# Altium footprint library resistor_thd.PcbLib: 26 footprints (part 1 of 2)
Each footprint in its own frame and in the unit in brackets; x right, y up, seen from the top. Pads: shape width x height; smd on the part's side, far side on the other; paste and mask are expansions set on the pad; w line width, h text height; cw(c..) or ccw(c..) is an arc to the next point about the centre after c.
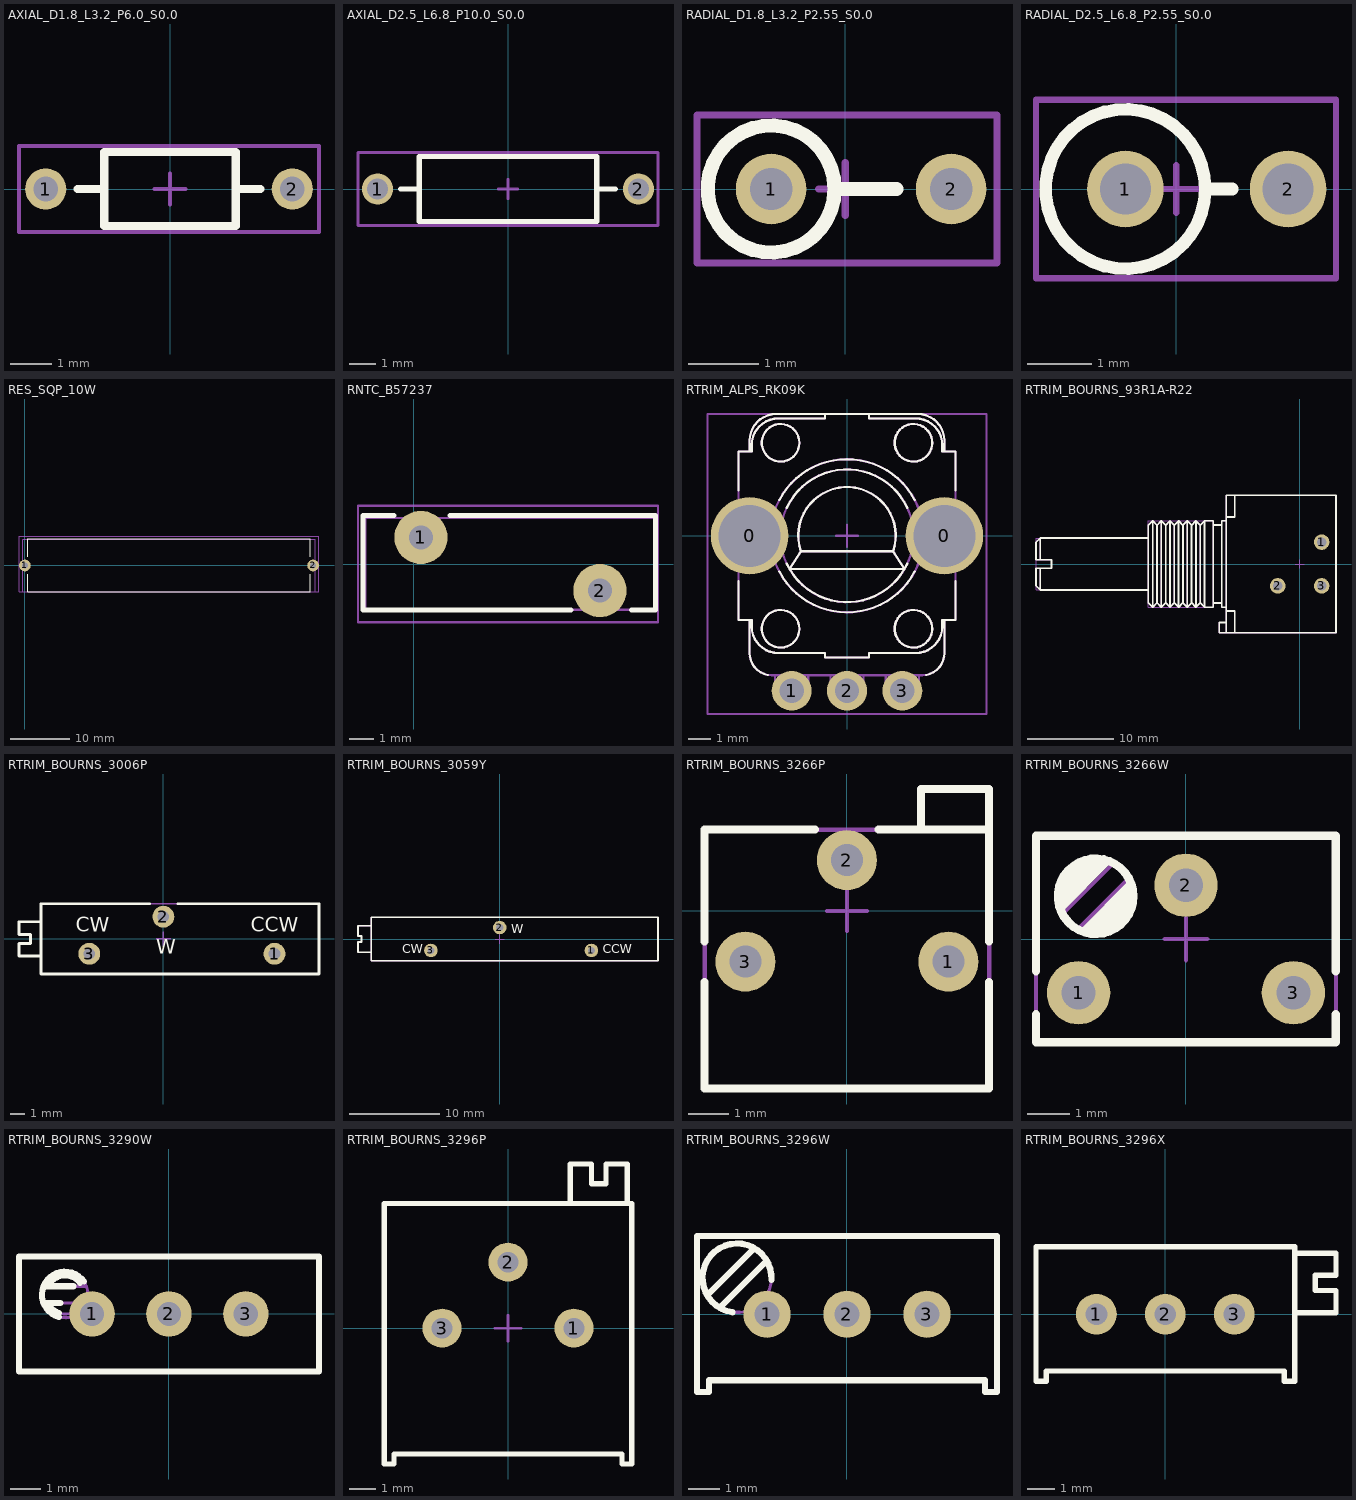
[diagram p0: the footprints below, top view; thin cyan lines are the x and y axes]

## AXIAL_D1.8_L3.2_P6.0_S0.0 [mm]
pads (2):
  round 1 hole 0.6: 1(-3.025,0) 2(2.975,0)
Top Overlay:
  lines w0.2: -2.25,0 -1.65,0 ; 1.6,0 2.2,0 ; -1.6,-0.9 -1.6,0.9 1.6,0.9 1.6,-0.9 -1.6,-0.9
Mechanical 1:
  lines w0.1: -2.25,0 -1.6,0 ; 1.6,0 2.2,0 ; -1.6,-0.9 -1.6,0.9 1.6,0.9 1.6,-0.9 -1.6,-0.9
Mechanical 15:
  lines w0.1: -0.375,0 0,0 ; 0,-0.375 0,0 ; 0,0.375 0,0 ; 0.375,0 0,0 ; -3.675,-1.05 -3.675,1.05 3.625,1.05 3.625,-1.05 -3.675,-1.05
3D body "R_0,25W__D1,8__L3,2__Pitch-6__Spacing-0_begie.stp": height 1.82, standoff -3.58, extent -3.25,-0.9 3.25,0.9

## AXIAL_D2.5_L6.8_P10.0_S0.0 [mm]
pads (2):
  round 1.2 hole 0.8: 1(-5,0) 2(5,0)
Top Overlay:
  lines w0.2: -4.125,0 -3.4,0 ; 3.4,0 4.125,0 ; -3.4,-1.25 3.4,-1.25 3.4,1.25 -3.4,1.25 -3.4,-1.25
Mechanical 1:
  lines w0.1: -4.125,0 -3.4,0 ; 3.4,0 4.125,0 ; -3.4,-1.25 -3.4,1.25 3.4,1.25 3.4,-1.25 -3.4,-1.25
Mechanical 15:
  lines w0.1: -0.375,0 0,0 ; 0,-0.375 0,0 ; 0,0.375 0,0 ; 0.375,0 0,0 ; -5.75,-1.4 5.75,-1.4 5.75,1.4 -5.75,1.4 -5.75,-1.4
3D body "R_0,5W__D2,5__L6,8__Pitch-10__Spacing-0_begie.stp": height 2.5, standoff -3.6, extent -5.3,-1.25 5.3,1.25

## RADIAL_D1.8_L3.2_P2.55_S0.0 [mm]
pads (2):
  round 1 hole 0.6: 1(-1.05,0) 2(1.5,0)
Top Overlay:
  circle w0.2: c-1.05,0 r0.9
  lines w0.2: -0.15,0 0.725,0
Mechanical 1:
  circle w0.1: c-1.05,0 r0.9
  lines w0.1: -0.15,0 0.725,0
Mechanical 15:
  lines w0.1: -0.375,0 0,0 ; 0,-0.375 0,0 ; 0,0.375 0,0 ; 0.375,0 0,0 ; -2.1,-1.05 2.15,-1.05 2.15,1.05 -2.1,1.05 -2.1,-1.05
3D body "R_0,25W_VERT__D1,8__L3,2__Pitch-2,54__Spacing-0_begie.stp": height 5.65, standoff -3.4, extent -1.94,-0.9 1.75,0.9

## RADIAL_D2.5_L6.8_P2.55_S0.0 [mm]
pads (2):
  round 1.2 hole 0.8: 1(-0.8,0) 2(1.75,0)
Top Overlay:
  circle w0.2: c-0.8,0 r1.25
  lines w0.2: 0.45,0 0.875,0
Mechanical 1:
  circle w0.1: c-0.8,0 r1.25
  lines w0.1: 0.45,0 0.875,0
Mechanical 15:
  lines w0.1: -0.375,0 0,0 ; 0,-0.375 0,0 ; 0,0.375 0,0 ; 0.375,0 0,0 ; -2.2,-1.4 2.5,-1.4 2.5,1.4 -2.2,1.4 -2.2,-1.4
3D body "R_0,5W_VERT__D2,5__L6,8__Pitch-2,54__Spacing-0_begie.stp": height 9.6, standoff -3.3, extent -2.045,-1.25 2.045,1.25

## RES_SQP_10W [mm]
pads (2):
  round 2 hole 1: 1(0,0) 2(49,0)
Top Overlay:
  lines w0.2: 0.5,-1.5 0.5,-4.5 48.5,-4.5 48.5,-1.5 ; 0.5,1.5 0.5,4.5 48.5,4.5 48.5,1.5
Mechanical 1:
  lines w0.1: -0.4,4.4 -0.4,-4.5 49.4,-4.5 49.4,4.5 -0.4,4.5
Mechanical 15:
  lines w0.1: -1,-4.5 -1,5 50,5 50,-4.5 -1,-4.5
3D body "User Library-SQP10AJB-1R8.STEP": height 10.55, standoff -4.04, extent -0.4,-4.5 49.4,4.5

## RNTC_B57237 [mm]
pads (2):
  round 2.2 hole 1: 1(0.3,1.1) 2(7.7,-1.1)
Top Overlay:
  lines w0.2: -0.8,2 -2.1,2 -2.1,-1.9 6.5,-1.9 ; 1.5,2 10,2 10,-1.9 9,-1.9
Mechanical 1:
  lines w0.1: -2,-1.9 -2,1.902 10,1.902 10,-1.9 -2,-1.9
Mechanical 15:
  lines w0.1: -2.3,-2.4 10.1,-2.4 10.1,2.4 -2.3,2.4 -2.3,-2.4
3D body "User Library-S10K275.STEP": height 13, standoff -2.5, extent -2,-1.9 10,1.902

## RTRIM_ALPS_RK09K [mm] "1 Turn Panel Control Trimming Potentiometer RK09K Series"
height 25
pads (5):
  round 3.5 hole 2.8: 0(-4.4,0) 0(4.4,0)
  round 1.8 hole 1.1: 1(-2.5,-7) 2(0,-7) 3(2.5,-7)
Top Overlay:
  circle w0.1: c-3,-4.2 r0.85
  circle w0.1: c3,-4.2 r0.85
  circle w0.1: c3,4.2 r0.85
  circle w0.1: c-3,4.2 r0.85
  lines w0.1: -4.9,-2.04 -4.9,-3.8 -4.3,-3.8 -4.3,-4.1 ccw(c-3.1,-4.1) -3.1,-5.3 -1,-5.3 -1,-5.5 1,-5.5 1,-5.3 3.1,-5.3 ccw(c3.1,-4.1) 4.3,-4.1 4.3,-3.8 4.9,-3.8 4.9,-2.04 ; -4.9,2.04 -4.9,3.8 -4.3,3.8 -4.3,4.1 cw(c-3.1,4.1) -3.1,5.3 -1,5.3 -1,5.5 ; -4.4,-3.8 -4.4,-5.3 ccw(c-3.4,-5.3) -3.584,-6.283 ; -4.4,3.8 -4.4,4.3 cw(c-3.2,4.3) -3.2,5.5 3.2,5.5 cw(c3.2,4.3) 4.4,4.3 4.4,3.8 ; -3.059,-1.616 ccw(c0,0) 3.059,-1.616 ; -3.059,1.616 cw(c0,0) 3.059,1.616 ; -2.722,-1.262 ccw(c0,0) 2.722,-1.262 ; -2.722,1.262 cw(c0,0) 2.722,1.262 ; 1,5.5 1,5.3 3.1,5.3 cw(c3.1,4.1) 4.3,4.1 4.3,3.8 4.9,3.8 4.9,2.04 ; 3.584,-6.283 ccw(c3.4,-5.3) 4.4,-5.3 4.4,-3.8 ; -2.086,-0.7 cw(c0,0) 2.086,-0.7 ; -2.086,-0.7 -2.598,-1.5 2.598,-1.5 2.086,-0.7 ; -2.086,-0.7 2.086,-0.7
Mechanical 1:
  circle w0.1: c3,4.2 r0.85
  circle w0.1: c0,0 r3.46
  circle w0.1: c0,0 r3
  circle w0.1: c-3,4.2 r0.85
  circle w0.1: c3,-4.2 r0.85
  circle w0.1: c-3,-4.2 r0.85
  lines w0.1: -4.4,-3.8 -4.4,-5.3 ccw(c-3.4,-5.3) -3.4,-6.3 3.4,-6.3 ccw(c3.4,-5.3) 4.4,-5.3 4.4,-3.8 ; -4.4,3.8 -4.4,4.3 cw(c-3.2,4.3) -3.2,5.5 3.2,5.5 cw(c3.2,4.3) 4.4,4.3 4.4,3.8 ; -3.25,-6.3 -3.25,-7.15 -1.75,-7.15 -1.75,-6.3 ; -1,5.5 -1,5.3 -3.1,5.3 ccw(c-3.1,4.1) -4.3,4.1 -4.3,3.8 -4.9,3.8 -4.9,-3.8 -4.3,-3.8 -4.3,-4.1 ccw(c-3.1,-4.1) -3.1,-5.3 -1,-5.3 -1,-5.5 1,-5.5 1,-5.3 3.1,-5.3 ccw(c3.1,-4.1) 4.3,-4.1 4.3,-3.8 4.9,-3.8 4.9,3.8 4.3,3.8 4.3,4.1 ccw(c3.1,4.1) 3.1,5.3 1,5.3 1,5.5 ; -0.75,-6.3 -0.75,-7.15 0.75,-7.15 0.75,-6.3 ; 1.75,-6.3 1.75,-7.15 3.25,-7.15 3.25,-6.3 ; -2.086,-0.7 cw(c0,0) 2.086,-0.7 ; -2.086,-0.7 2.086,-0.7 ; -2.086,-0.7 -2.598,-1.5 2.598,-1.5 2.086,-0.7
Mechanical 15:
  lines w0.1: -0.5,0 0,0 ; 0,-0.5 0,0 ; 0,0.5 0,0 ; 0.5,0 0,0 ; -6.3,-8.05 6.3,-8.05 6.3,5.5 -6.3,5.5 -6.3,-8.05
3D body "TRIM_ALPS_RK09K.stp": height 24.9, standoff -3.9, extent -5.7,-7.15 5.698,5.5

## RTRIM_BOURNS_93R1A-R22 [mm] "1 Turn Panel Control Trimming Potentiometer 93 Series"
height 17.45
pads (3):
  round 1.8 hole 1.1: 1(2.54,2.54) 2(-2.54,-2.54) 3(2.54,-2.54)
Top Overlay:
  lines w0.2: -30.01,-0.5 -30.01,-3 ; -30.01,0.5 -30.01,3 ; -17.51,-3 -30.01,-3 ; -17.51,3 -30.01,3 ; -10.01,-4.5 -9.01,-4.5 ; -10.01,4.5 -9.01,4.5 ; -8.51,-7.94 -8.51,7.94 4.19,7.94 4.19,-7.94 -9.3,-7.94 -9.3,-6.76 -8.51,-6.76 ; -8.51,-5.44 -7.51,-5.44 -7.51,-7.94 ; -8.51,-5 -9.01,-5 -9.01,5 -8.51,5 ; -8.51,5.44 -7.51,5.44 -7.51,7.94 ; -30.01,-3 -30.51,-2.5 -30.51,-0.5 -28.71,-0.5 -28.71,0.5 -30.51,0.5 -30.51,2.5 -30.01,3 ; -17.01,-5 -17.51,-4.5 -17.51,4.5 -17.01,5 ; -17.01,-5 -16.51,-4.5 ; -17.01,-5 -17.01,5 ; -17.01,5 -16.51,4.5 ; -16.51,-4.5 -16.01,-5 ; -16.51,-4.5 -16.51,4.5 ; -16.51,4.5 -16.01,5 ; -16.01,-5 -15.51,-4.5 ; -16.01,-5 -16.01,5 ; -16.01,5 -15.51,4.5 ; -15.51,-4.5 -15.01,-5 ; -15.51,-4.5 -15.51,4.5 ; -15.51,4.5 -15.01,5 ; -15.01,-5 -14.51,-4.5 ; -15.01,-5 -15.01,5 ; -15.01,5 -14.51,4.5 ; -14.51,-4.5 -14.01,-5 ; -14.51,-4.5 -14.51,4.5 ; -14.51,4.5 -14.01,5 ; -14.01,-5 -13.51,-4.5 ; -14.01,-5 -14.01,5 ; -14.01,5 -13.51,4.5 ; -13.51,-4.5 -13.01,-5 ; -13.51,-4.5 -13.51,4.5 ; -13.51,4.5 -13.01,5 ; -13.01,-5 -12.51,-4.5 ; -13.01,-5 -13.01,5 ; -13.01,5 -12.51,4.5 ; -12.51,-4.5 -12.01,-5 ; -12.51,-4.5 -12.51,4.5 ; -12.51,4.5 -12.01,5 ; -12.01,-5 -11.51,-4.5 ; -12.01,-5 -12.01,5 ; -12.01,5 -11.51,4.5 ; -11.51,-4.5 -11.01,-5 ; -11.51,-4.5 -11.51,4.5 ; -11.51,4.5 -11.01,5 ; -11.01,-5 -10.01,-5 -10.01,5 -11.01,5 ; -11.01,-5 -11.01,5
Mechanical 1:
  lines w0.1: -30.01,-0.5 -30.01,-3 ; -30.01,0.5 -30.01,3 ; -17.51,-3 -30.01,-3 ; -17.51,3 -30.01,3 ; -10.01,-4.5 -9.01,-4.5 ; -10.01,4.5 -9.01,4.5 ; -8.51,-7.94 -8.51,7.94 4.19,7.94 4.19,-7.94 -9.3,-7.94 -9.3,-6.76 -8.51,-6.76 ; -8.51,-5.44 -7.51,-5.44 -7.51,-7.94 ; -8.51,-5 -9.01,-5 -9.01,5 -8.51,5 ; -8.51,5.44 -7.51,5.44 -7.51,7.94 ; -30.01,-3 -30.51,-2.5 -30.51,-0.5 -28.71,-0.5 -28.71,0.5 -30.51,0.5 -30.51,2.5 -30.01,3 ; -17.01,-5 -17.51,-4.5 -17.51,4.5 -17.01,5 ; -17.01,-5 -17.01,5 ; -17.01,-5 -16.51,-4.5 ; -17.01,5 -16.51,4.5 ; -16.51,-4.5 -16.51,4.5 ; -16.51,-4.5 -16.01,-5 ; -16.51,4.5 -16.01,5 ; -16.01,-5 -16.01,5 ; -16.01,-5 -15.51,-4.5 ; -16.01,5 -15.51,4.5 ; -15.51,-4.5 -15.51,4.5 ; -15.51,-4.5 -15.01,-5 ; -15.51,4.5 -15.01,5 ; -15.01,-5 -15.01,5 ; -15.01,-5 -14.51,-4.5 ; -15.01,5 -14.51,4.5 ; -14.51,-4.5 -14.51,4.5 ; -14.51,-4.5 -14.01,-5 ; -14.51,4.5 -14.01,5 ; -14.01,-5 -14.01,5 ; -14.01,-5 -13.51,-4.5 ; -14.01,5 -13.51,4.5 ; -13.51,-4.5 -13.51,4.5 ; -13.51,-4.5 -13.01,-5 ; -13.51,4.5 -13.01,5 ; -13.01,-5 -13.01,5 ; -13.01,-5 -12.51,-4.5 ; -13.01,5 -12.51,4.5 ; -12.51,-4.5 -12.51,4.5 ; -12.51,-4.5 -12.01,-5 ; -12.51,4.5 -12.01,5 ; -12.01,-5 -12.01,5 ; -12.01,-5 -11.51,-4.5 ; -12.01,5 -11.51,4.5 ; -11.51,-4.5 -11.51,4.5 ; -11.51,-4.5 -11.01,-5 ; -11.51,4.5 -11.01,5 ; -11.01,-5 -10.01,-5 -10.01,5 -11.01,5 ; -11.01,-5 -11.01,5
Mechanical 15:
  lines w0.1: -0.5,0 0,0 ; 0,-0.5 0,0 ; 0,0.5 0,0 ; 0.5,0 0,0 ; -30.5,-3 -17.525,-3 -17.525,-5 -10,-5 -10,-4.5 -9,-4.5 -9,-5 -8.5,-5 -8.5,-6.75 -9.3,-6.75 -9.3,-7.95 4.2,-7.95 4.2,7.95 -8.5,7.95 -8.5,5 -9,5 -9,4.5 -10,4.5 -10,5 -17.525,5 -17.525,3 -30.5,3 -30.5,-3
3D body "TRIM_BOURNS_93R1A-R22.stp": height 17.45, standoff -12.7, extent -30.51,-7.94 4.19,7.94
3D body "TRIM_BOURNS_93R1A-R22_1.stp": height 16.3, standoff 2.76, extent -14.137,-7.103 -10.796,7.103

## RTRIM_BOURNS_3006P [mm] "Trimming Potentiometer BOURNS 3006P Series"
height 6.35
pads (3):
  round 1.5 hole 0.8: 1(7.62,-1.015) 2(0,1.525) 3(-5.08,-1.015)
Top Overlay:
  lines w0.2: -8.38,-1.18 -9.9,-1.18 -9.9,-0.32 -9.11,-0.32 -9.11,0.32 -9.9,0.32 -9.9,1.18 -8.38,1.18 ; -0.95,2.415 -8.38,2.415 -8.38,-2.415 10.67,-2.415 10.67,2.415 1,2.415
  text "CW" at -6,0.5 h1
  text "W" at -0.5,-1 h1
  text "CCW" at 6,0.5 h1
Mechanical 1:
  lines w0.1: -8.38,-1.18 -9.9,-1.18 -9.9,-0.32 -9.11,-0.32 -9.11,0.32 -9.9,0.32 -9.9,1.18 -8.38,1.18 ; -8.38,-2.415 10.67,-2.415 10.67,2.415 -8.38,2.415 -8.38,-2.415
  text "CW" at -6,0.5 h1
  text "W" at -0.5,-1 h1
  text "CCW" at 6,0.5 h1
Mechanical 15:
  lines w0.1: -8.38,-1.185 -9.9,-1.185 -9.9,-0.325 -9.11,-0.325 -9.11,0.315 -9.9,0.315 -9.9,1.175 -8.38,1.175 ; -0.5,0 0,0 ; 0,-0.5 0,0 ; 0,0.5 0,0 ; 0.5,0 0,0 ; -8.38,-2.42 -8.38,2.41 1,2.41 10.67,2.41 10.67,-2.42 -8.38,-2.42
3D body "TRIM_BOURNS_3006P.stp": height 6.35, standoff -3.1, extent -9.9,-2.415 10.67,2.415

## RTRIM_BOURNS_3059Y [mm] "Trimming Potentiometer BOURNS 3059 Series"
height 8.38
pads (3):
  round 1.5 hole 0.8: 1(10.16,-1.27) 2(0,1.27) 3(-7.62,-1.27)
Top Overlay:
  lines w0.2: -14.22,-1.46 -15.69,-1.46 ; -14.22,1.46 -15.69,1.46 -15.69,0.32 -15.295,0.32 -15.295,-0.32 -15.69,-0.32 ; -15.69,-1.46 -15.69,-0.32 ; -15.69,-1.46 -15.69,-0.32 ; -14.22,-2.415 -14.22,2.415 17.53,2.415 17.53,-2.415 -14.22,-2.415
  text "CCW" at 11.43,-1.587 h1
  text "W" at 1.27,0.635 h1
  text "CW" at -10.795,-1.587 h1
Mechanical 1:
  lines w0.1: -14.22,-1.46 -15.69,-1.46 -15.69,-0.32 -15.295,-0.32 -15.295,0.32 -15.69,0.32 -15.69,1.46 -14.22,1.46 ; -14.22,-2.415 -14.22,2.415 17.53,2.415 17.53,-2.415 -14.22,-2.415
Mechanical 15:
  lines w0.1: -14.225,-1.46 -15.695,-1.46 -15.695,-0.32 -15.3,-0.32 -15.3,0.32 -15.695,0.32 -15.695,1.46 -14.225,1.46 ; -0.5,0 0,0 ; 0,-0.5 0,0 ; 0,0.5 0,0 ; 0.5,0 0,0 ; -14.225,-2.415 17.525,-2.415 17.525,2.415 -14.225,2.415 -14.225,-2.415
3D body "TRIM_BOURNS_3059Y.stp": height 8.38, standoff -3.8, extent -16.25,-2.415 17.53,2.415

## RTRIM_BOURNS_3266P [mm] "Trimming Potentiometer BOURNS 3266P Series"
height 4.93
pads (3):
  round 1.5 hole 0.8: 1(2.54,-1.27) 2(0,1.27) 3(-2.54,-1.27)
Top Overlay:
  lines w0.2: -3.556,-1.775 -3.556,-4.444 3.556,-4.444 3.556,-1.775 ; -3.556,-0.765 -3.556,2.033 -0.793,2.033 ; 0.793,2.033 3.556,2.033 ; 1.851,2.033 1.851,3.049 3.556,3.049 3.556,2.033 ; 3.556,-0.765 3.556,2.033
Mechanical 1:
  lines w0.1: -3.556,-4.444 -3.556,2.033 3.556,2.033 3.556,-4.444 -3.556,-4.444
Mechanical 15:
  lines w0.1: -0.5,0 0,0 ; 0,-0.5 0,0 ; 0,0.5 0,0 ; 0.5,0 0,0 ; -3.55,-4.452 -3.55,2.025 3.562,2.025 3.562,-4.452 -3.55,-4.452
3D body "TRIM_BOURNS_3266P.stp": height 4.42, standoff -3.1, extent -3.556,-4.444 3.556,3.053

## RTRIM_BOURNS_3266W [mm] "Trimming Potentiometer BOURNS 3266W Series"
height 7.75
pads (3):
  round 1.5 hole 0.8: 1(-2.54,-1.27) 2(0,1.27) 3(2.54,-1.27)
Top Overlay:
  circle w0.2: c-2.135,1.01 r0.89
  lines w0.2: -3.545,-1.775 -3.545,-2.44 3.545,-2.44 3.545,-1.775 ; -3.545,-0.765 -3.545,2.44 3.545,2.44 3.545,-0.765 ; -3.012,1.088 -2.228,1.878 ; -3,0.9 -2.028,1.878 ; -2.962,0.737 -1.865,1.84 ; -2.953,1.353 -2.503,1.803 ; -2.405,0.18 -1.308,1.283 ; -2.242,0.142 -1.27,1.12 ; -2.042,0.142 -1.258,0.933 ; -1.767,0.217 -1.317,0.667
Mechanical 1:
  circle w0.1: c-2.135,1.01 r0.89
  lines w0.1: -2.918,0.587 -1.712,1.793 ; -2.558,0.227 -1.352,1.433 ; -3.545,-2.44 -3.545,2.44 3.545,2.44 3.545,-2.44 -3.545,-2.44
Mechanical 15:
  lines w0.1: -0.5,0 0,0 ; 0,-0.5 0,0 ; 0,0.5 0,0 ; 0.5,0 0,0 ; -3.544,-2.44 -3.544,-1.775 -3.544,2.44 3.546,2.44 3.546,-1.775 3.546,-2.44 -3.544,-2.44
3D body "TRIM_BOURNS_3266W.stp": height 8.77, standoff -3.1, extent -3.545,-2.44 3.545,2.44

## RTRIM_BOURNS_3290W [mm] "Trimming Potentiometer BOURNS 3290W Series"
height 9.91
pads (3):
  round 1.5 hole 0.8: 1(-2.54,0) 2(0,0) 3(2.54,0)
Top Overlay:
  lines w0.2: -4.144,0.356 -3.581,0.356 ; -4.144,0.914 -3.151,0.914 ; -4.005,0.356 ccw(c-3.435,0.635) -3.639,0.034 ; -4.005,0.914 cw(c-3.435,0.635) -2.935,1.027 ; -3.635,-0.1 cw(c-3.435,0.635) -2.807,1.067 ; -4.955,-1.905 -4.955,1.905 4.955,1.905 4.955,-1.905 -4.955,-1.905
Mechanical 1:
  circle w0.1: c-3.435,0.635 r0.762
  lines w0.1: -4.144,0.356 -2.726,0.356 ; -4.144,0.914 -2.726,0.914 ; -4.005,0.356 ccw(c-3.435,0.635) -2.865,0.356 ; -4.005,0.914 cw(c-3.435,0.635) -2.865,0.914 ; -4.955,-1.905 -4.955,1.905 4.955,1.905 4.955,-1.905 -4.955,-1.905
Mechanical 15:
  lines w0.1: -0.5,0 0,0 ; 0,-0.5 0,0 ; 0,0.5 0,0 ; 0.5,0 0,0 ; -4.95,-1.91 -4.95,1.9 4.96,1.9 4.96,-1.91 -4.95,-1.91
3D body "TRIM_BOURNS_3290W.stp": height 10.93, standoff -8.38, extent -4.955,-1.905 4.955,1.905

## RTRIM_BOURNS_3296P [mm] "Trimming Potentiometer BOURNS 3296P Series"
height 4.96
pads (3):
  round 1.5 hole 0.8: 1(2.54,0) 2(0,2.54) 3(-2.54,0)
Top Overlay:
  lines w0.2: 2.4,4.8 2.4,6.32 3.215,6.32 3.215,5.56 3.775,5.56 3.775,6.32 4.59,6.32 4.59,4.8 ; -4.765,-5.23 -4.385,-5.23 -4.385,-4.85 4.385,-4.85 4.385,-5.23 4.765,-5.23 4.765,4.8 -4.765,4.8 -4.765,-5.23
Mechanical 1:
  lines w0.1: 2.4,4.8 2.4,6.32 3.215,6.32 3.215,5.56 3.775,5.56 3.775,6.32 4.59,6.32 4.59,4.8 ; -4.765,-5.23 -4.765,4.8 4.765,4.8 4.765,-5.23 4.385,-5.23 4.385,-4.85 -4.385,-4.85 -4.385,-5.23 -4.765,-5.23
Mechanical 15:
  lines w0.1: -0.5,0 0,0 ; 0,-0.5 0,0 ; 0,0.5 0,0 ; 0.5,0 0,0 ; 2.4,4.799 2.4,6.319 3.215,6.319 3.215,5.559 3.775,5.559 3.775,6.319 4.59,6.319 4.59,4.799 ; -4.765,-5.231 -4.385,-5.231 -4.385,-4.851 4.385,-4.851 4.385,-5.231 4.765,-5.231 4.765,4.799 -4.765,4.799 -4.765,-5.231
3D body "TRIM_BOURNS_3296P.stp": height 4.96, standoff -3.42, extent -4.765,-5.23 4.765,6.32

## RTRIM_BOURNS_3296W [mm] "Trimming Potentiometer BOURNS 3296W Series"
height 11.55
pads (3):
  round 1.5 hole 0.8: 1(-2.54,0) 2(0,0) 3(2.54,0)
Top Overlay:
  lines w0.2: -4.442,0.599 -2.944,2.097 ; -4.046,0.203 -2.548,1.701 ; -3.638,0.064 cw(c-3.495,1.15) -2.402,1.091 ; -4.765,-2.475 -4.765,2.485 4.765,2.485 4.765,-2.475 4.385,-2.475 4.385,-2.095 -4.385,-2.095 -4.385,-2.475 -4.765,-2.475
Mechanical 1:
  circle w0.1: c-3.495,1.15 r1.095
  lines w0.1: -4.442,0.599 -2.944,2.097 ; -4.046,0.203 -2.548,1.701 ; -4.765,-2.475 -4.765,2.485 4.765,2.485 4.765,-2.475 4.385,-2.475 4.385,-2.095 -4.385,-2.095 -4.385,-2.475 -4.765,-2.475
Mechanical 15:
  lines w0.1: -0.5,0 0,0 ; 0,-0.5 0,0 ; 0,0.5 0,0 ; 0.5,0 0,0 ; -4.765,-2.474 -4.385,-2.474 -4.385,-2.094 4.385,-2.094 4.385,-2.474 4.765,-2.474 4.765,2.486 -4.765,2.486 -4.765,-2.474
3D body "TRIM_BOURNS_3296W.stp": height 11.49, standoff -3.42, extent -4.765,-2.475 4.765,2.485

## RTRIM_BOURNS_3296X [mm] "Trimming Potentiometer BOURNS 3296X Series"
height 10.03
pads (3):
  round 1.5 hole 0.8: 1(-2.54,0) 2(0,0) 3(2.54,0)
Top Overlay:
  lines w0.2: 4.765,0.055 6.285,0.055 6.285,0.87 5.525,0.87 5.525,1.15 5.525,1.43 6.285,1.43 6.285,2.245 4.765,2.245 ; -4.765,-2.475 -4.385,-2.475 -4.385,-2.095 4.385,-2.095 4.385,-2.475 4.765,-2.475 4.765,2.485 -4.765,2.485 -4.765,-2.475
Mechanical 1:
  lines w0.1: 4.765,0.055 6.285,0.055 6.285,0.87 5.525,0.87 5.525,1.15 5.525,1.43 6.285,1.43 6.285,2.245 4.765,2.245 ; -4.765,-2.475 -4.385,-2.475 -4.385,-2.095 4.385,-2.095 4.385,-2.475 4.765,-2.475 4.765,2.485 -4.765,2.485 -4.765,-2.475
Mechanical 15:
  lines w0.1: -0.5,0 0,0 ; 0,-0.5 0,0 ; 0,0.5 0,0 ; 0.5,0 0,0 ; 4.765,0.055 6.285,0.055 6.285,0.87 5.525,0.87 5.525,1.15 5.525,1.43 6.285,1.43 6.285,2.245 4.765,2.245 ; -4.765,-2.475 -4.385,-2.475 -4.385,-2.095 4.385,-2.095 4.385,-2.475 4.765,-2.475 4.765,2.485 -4.765,2.485 -4.765,-2.475
3D body "TRIM_BOURNS_3296X.stp": height 10.03, standoff -3.42, extent -4.765,-2.475 6.285,2.485